# EAGLE library part DRV8871 (library kitt.ic)
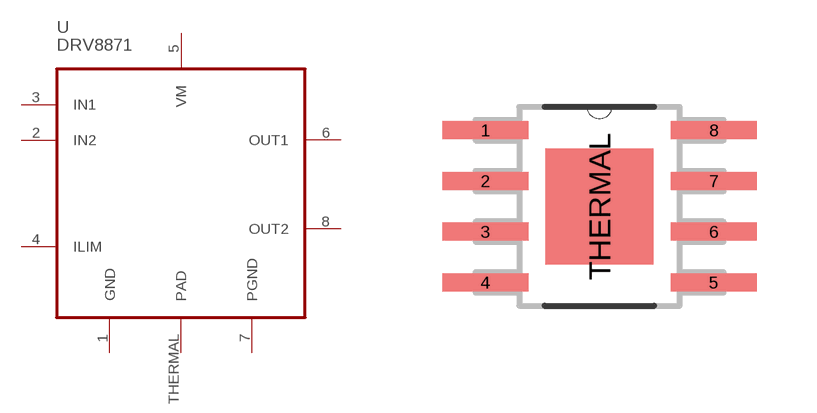
[diagram p3: symbol with the pads of HSOP8; footprint HSOP8]

Designator prefix U

## DRV8871DRV8871  [HSOP8]
1  GND
2  IN2
3  IN1
4  ILIM
5  VM
6  OUT1
7  PGND
8  OUT2
THERMAL  PAD

## Footprint HSOP8 (pad centres in mm)
smd 2.15 x 0.45: 1 -2.857,1.905; 2 -2.857,0.635; 3 -2.857,-0.635; 4 -2.857,-1.905; 5 2.857,-1.905; 6 2.857,-0.635; 7 2.857,0.635; 8 2.857,1.905
smd 2.7 x 2.9: THERMAL 0,0